# Altium footprint library 5x7 Crystall Oscillatior.PcbLib: 1 footprints
Each footprint in its own frame and in the unit in brackets; x right, y up, seen from the top. Pads: shape width x height; smd on the part's side, far side on the other; paste and mask are expansions set on the pad; w line width, h text height; cw(c..) or ccw(c..) is an arc to the next point about the centre after c.
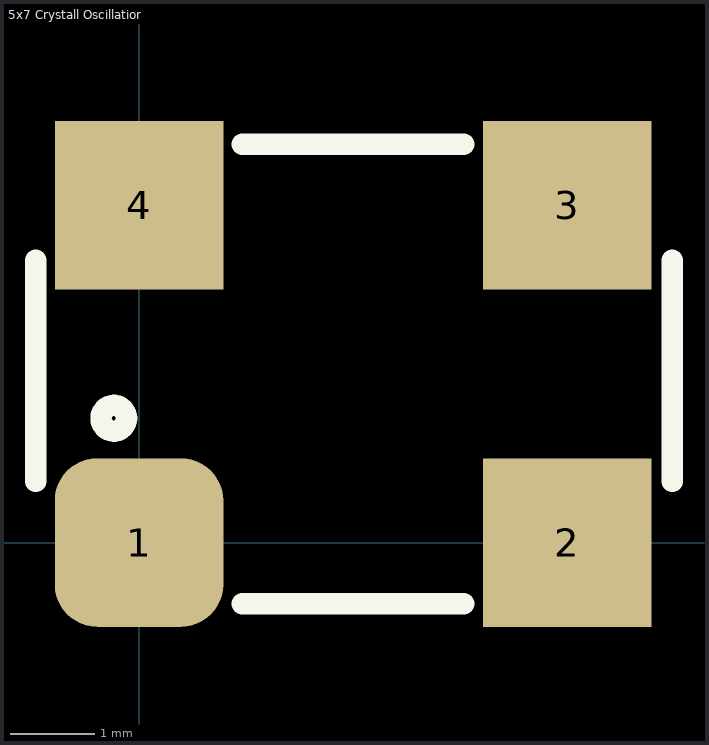
[diagram p0: the footprint, top view; thin cyan lines are the x and y axes]

## 5x7 Crystall Oscillatior [mm]
pads (4):
  rrect50% 2x2 smd: 1(0,0)
  rect 2x2 smd: 2(5.08,0) 3(5.08,4) 4(0,4)
Top Overlay:
  circle w0.254: c-0.3,1.475 r0.152
  lines w0.254: -1.225,0.725 -1.225,3.35 ; 1.225,-0.725 3.85,-0.725 ; 1.225,4.725 3.85,4.725 ; 6.325,0.725 6.325,3.35
3D body "5x7 Crystall Oscillator.STEP": height 1.52, standoff 0, extent -0.95,-0.51 6.05,4.51